# Altium schematic symbol library HC32F005.SchLib: 2 symbols
Pins are listed as number, name and electrical type; pins without a type are passive.

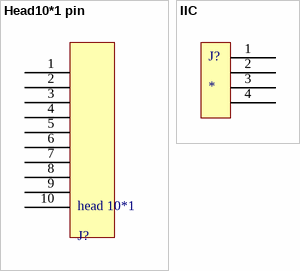
[diagram p0: symbols Head10*1 pin to IIC]

## Head10*1 pin
designator head 10*1, comment J?
pins: 1 10, 2 11, 3 12, 4 13, 5 14, 6 15, 7 16, 8 17, 9 18, 10 19

## IIC
designator J?
pins: 1, 2, 3, 4